# Altium footprint library PcbLib1.PcbLib: 37 footprints (part 3 of 3)
Each footprint in its own frame and in the unit in brackets; x right, y up, seen from the top. Pads: shape width x height; smd on the part's side, far side on the other; paste and mask are expansions set on the pad; w line width, h text height; cw(c..) or ccw(c..) is an arc to the next point about the centre after c.
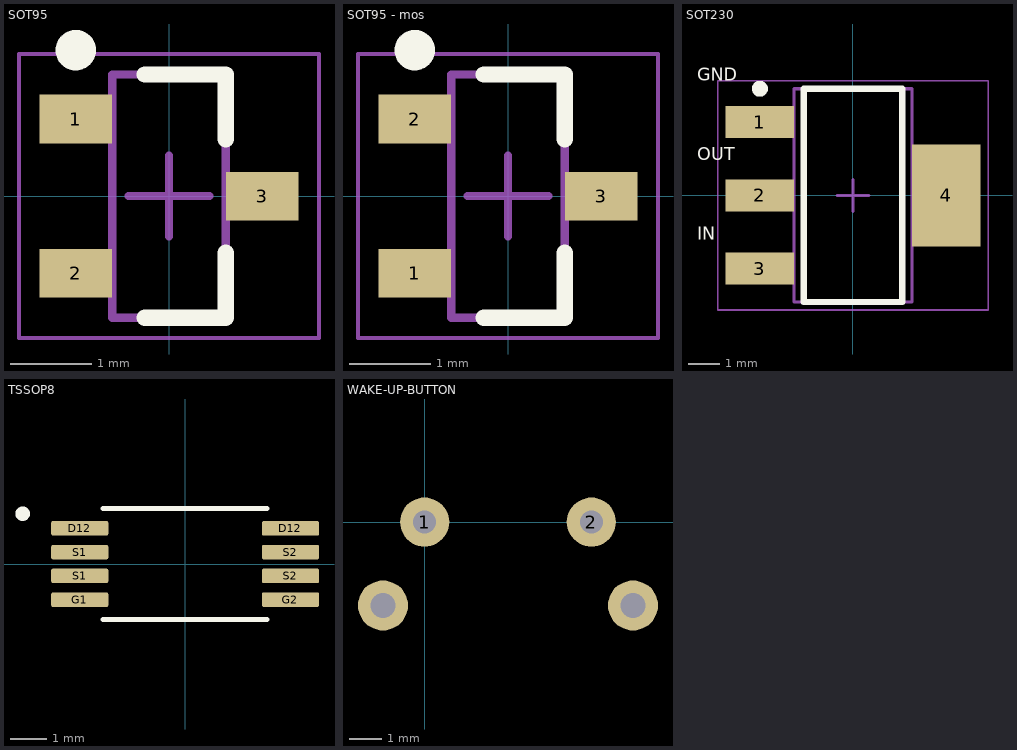
[diagram p2: the footprints below, top view; thin cyan lines are the x and y axes]

## SOT95 [mm] "SOT23, 3-Leads, Body 2,90x2,30mm, Pitch 0,95mm, IPC Medium Density"
height 1.1
pads (3):
  rect 0.9x0.6 smd: 1(-1.15,0.95) 2(-1.15,-0.95) 3(1.15,0)
Top Overlay:
  circle w0.25: c-1.15,1.8 r0.125
  lines w0.2: -0.3,-1.5 0.7,-1.5 0.7,-0.7 ; -0.3,1.5 0.7,1.5 0.7,0.7
Mechanical 13:
  lines w0.1: -0.7,-1.5 0.7,-1.5 0.7,1.5 -0.7,1.5 -0.7,-1.5
Mechanical 15:
  lines w0.05: -1.85,-1.75 1.85,-1.75 1.85,1.75 -1.85,1.75 -1.85,-1.75
  lines w0.1: -0.5,0 0.5,0 ; 0,-0.5 0,0.5
3D body "SOT95P230X110-3N.step": height 1.1, standoff 0, extent -1.25,-1.5 1.25,1.5

## SOT95 - mos [mm] "SOT23, 3-Leads, Body 2,90x2,30mm, Pitch 0,95mm, IPC Medium Density"
height 1.1
pads (3):
  rect 0.9x0.6 smd: 1(-1.15,-0.95) 2(-1.15,0.95) 3(1.15,0)
Top Overlay:
  circle w0.25: c-1.15,1.8 r0.125
  lines w0.2: -0.3,-1.5 0.7,-1.5 0.7,-0.7 ; -0.3,1.5 0.7,1.5 0.7,0.7
Mechanical 13:
  lines w0.1: -0.7,-1.5 0.7,-1.5 0.7,1.5 -0.7,1.5 -0.7,-1.5
Mechanical 15:
  lines w0.05: -1.85,-1.75 1.85,-1.75 1.85,1.75 -1.85,1.75 -1.85,-1.75
  lines w0.1: -0.5,0 0.5,0 ; 0,-0.5 0,0.5
3D body "SOT95P230X110-3N.step": height 1.1, standoff 0, extent -1.25,-1.5 1.25,1.5

## SOT230 [mm] "SOT223, 4-Leads, Body 6,50x7,00mm (avg), Pitch 2,30mm, IPC Medium Density"
height 1.8
pads (4):
  rect 2.15x1 smd: 1(-2.925,2.3) 2(-2.925,0) 3(-2.925,-2.3)
  rect 2.15x3.2 smd: 4(2.925,0)
Top Overlay:
  circle w0.25: c-2.925,3.35 r0.125
  lines w0.2: -1.55,-3.35 -1.55,3.35 1.55,3.35 1.55,-3.35 -1.55,-3.35
  text "GND" at -4.9,3.6 h0.4
  text "OUT" at -4.9,1.1 h0.4
  text "IN" at -4.9,-1.4 h0.4
Mechanical 13:
  lines w0.1: -1.85,-3.35 -1.85,3.35 1.85,3.35 1.85,-3.35 -1.85,-3.35
Mechanical 15:
  lines w0.05: -4.25,-3.6 -4.25,3.6 4.25,3.6 4.25,-3.6 -4.25,-3.6
  lines w0.1: -0.5,0 0.5,0 ; 0,-0.5 0,0.5
3D body "SOT230P700X180-4N.step": height 1.8, standoff 0, extent -3.5,-3.35 3.5,3.35

## TSSOP8 [mm]
height 1.2
pads (8):
  rrect25% 1.56x0.4 smd: D12(-2.88,0.975) D12(2.88,0.975) G1(-2.88,-0.975) G2(2.88,-0.975) S1(-2.88,-0.325) S1(-2.88,0.325) S2(2.88,-0.325) S2(2.88,0.325)
Top Overlay:
  circle w0.2: c-4.44,1.375 r0.1
  lines w0.127: -2.25,-1.515 2.25,-1.515 ; -2.25,1.515 2.25,1.515
3D body "step_temp.STEP": height 1.2, standoff 0, extent -3.2,-1.465 3.2,1.465

## WAKE-UP-BUTTON [mm]
pads (4):
  round 1.5 hole 0.7: 1(0,0) 2(5.08,0)
  round 1.524 hole 0.762: ""(-1.27,-2.54) ""(6.35,-2.54)
3D body "SW-DTSA-61K-V.stp": height 8.7, standoff -2, extent -1.71,-4 6.79,3.15